# EAGLE library part ADCMP553BRMZ (library Schuyler)
PECL/LVPECL Comparators
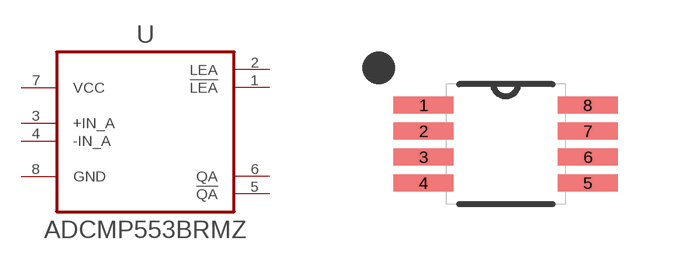
[diagram p20: symbol with the pads of SOP65P490X110-8N; footprint SOP65P490X110-8N]

Designator prefix U

## ADCMP553BRMZ (MANPARTNUMBER: ADCMP553BRMZ; MANUFACTURER: Analog Devices; PARTNUMBER: ADCMP553BRMZ-ND; SUPPLIER: DIGIKEY; VERIFIED: FALSE)  [SOP65P490X110-8N]
1  !LEA  in
2  LEA  in
3  +IN_A  in
4  -IN_A  in
5  !QA  out
6  QA  out
7  VCC  pwr
8  GND  pwr

## Footprint SOP65P490X110-8N (pad centres in mm)
smd 1.499 x 0.432: 1 -2.057,0.975; 2 -2.057,0.325; 3 -2.057,-0.325; 4 -2.057,-0.975; 5 2.057,-0.975; 6 2.057,-0.325; 7 2.057,0.325; 8 2.057,0.975